# EAGLE library part MICROCHIP_PIC12F1501-I-MS (library Upverter Library)
MCHP-PIC12F1XXX_752_HV752-8
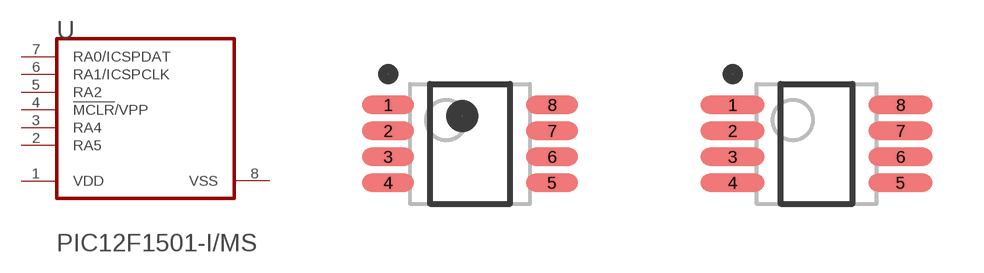
[diagram p0: symbol with the pads of MICROCHIP_PIC12F1501-I-MS_0; footprints MICROCHIP_PIC12F1501-I-MS_0, MICROCHIP_PIC12F1501-I-MS_1]

Designator prefix U

## MICROCHIP_PIC12F1501-I-MSMICROCHIP_PIC12F1501-I-MS_0_0 (Component_Link_2_Description: Package Specification; Component_Link_2_URL: http://www.microchip.com/stellent/groups/techpub_sg/documents/packagingspec/en012702.pdf; Component_Link_3_Description: URL Link1; Component_Link_3_URL: Product URL:http://www.microchip.com/datasheet/PIC12F1501; Datasheet_Version: Rev. A; IO_Pins: 5; Internal_Oscillator: 16 MHz, 31 kHz; MF: Microchip; MPN: PIC12F1501-I/MS; Max_CPU_Speed_MHz: 20; Memory_Type: Flash; Mounting_Technology: Surface Mount; Operation_Voltage_Range: 2.3V - 5.5V; Package_Description: 8-Lead Plastic Micro Small Outline Package, 3 x 3 mm Body, 0.65 mm Pitch; Package_Version: C04-111C, 12/2012; Packing: TUBE; Program_Memory_KBytes: 1.75; Program_Memory_KWords: 1; RAM: 64; Timers: 2 - 8-bit, 1 - 16-bit; ciiva_ids: 1155126; datasheet: http://ww1.microchip.com/downloads/en/DeviceDoc/41615A.pdf; footprint_variant_name_0: Level C; footprint_variant_name_1: Level B; footprint_variant_name_2: Level A; import_ts: 1521846234; imported: yes; imported_from: vault; of_AD_Channels: 4; package: MSOP-MS8; prefix: U; release_date: 1370067038; rohs: Yes; vault_guid: 903B7C59-E1DA-4F18-BB31-A668B265E4FC; vault_revision: 10D8DFF0-9A47-4B00-B437-D0E6DFCFE437)  [MICROCHIP_PIC12F1501-I-MS_0]
1  VDD  pwr
2  RA5
3  RA4
4  !MCLR!/VPP  in
5  RA2
6  RA1/ICSPCLK
7  RA0/ICSPDAT
8  VSS  pwr

## MICROCHIP_PIC12F1501-I-MSMICROCHIP_PIC12F1501-I-MS_0_1 (Component_Link_2_Description: Package Specification; Component_Link_2_URL: http://www.microchip.com/stellent/groups/techpub_sg/documents/packagingspec/en012702.pdf; Component_Link_3_Description: URL Link1; Component_Link_3_URL: Product URL:http://www.microchip.com/datasheet/PIC12F1501; Datasheet_Version: Rev. A; IO_Pins: 5; Internal_Oscillator: 16 MHz, 31 kHz; MF: Microchip; MPN: PIC12F1501-I/MS; Max_CPU_Speed_MHz: 20; Memory_Type: Flash; Mounting_Technology: Surface Mount; Operation_Voltage_Range: 2.3V - 5.5V; Package_Description: 8-Lead Plastic Micro Small Outline Package, 3 x 3 mm Body, 0.65 mm Pitch; Package_Version: C04-111C, 12/2012; Packing: TUBE; Program_Memory_KBytes: 1.75; Program_Memory_KWords: 1; RAM: 64; Timers: 2 - 8-bit, 1 - 16-bit; ciiva_ids: 1155126; datasheet: http://ww1.microchip.com/downloads/en/DeviceDoc/41615A.pdf; footprint_variant_name_0: Level C; footprint_variant_name_1: Level B; footprint_variant_name_2: Level A; import_ts: 1521846234; imported: yes; imported_from: vault; of_AD_Channels: 4; package: MSOP-MS8; prefix: U; release_date: 1370067038; rohs: Yes; vault_guid: 903B7C59-E1DA-4F18-BB31-A668B265E4FC; vault_revision: 10D8DFF0-9A47-4B00-B437-D0E6DFCFE437)  [MICROCHIP_PIC12F1501-I-MS_1]
Pads as for MICROCHIP_PIC12F1501-I-MS_0

## MICROCHIP_PIC12F1501-I-MSMICROCHIP_PIC12F1501-I-MS_0_2 (Component_Link_2_Description: Package Specification; Component_Link_2_URL: http://www.microchip.com/stellent/groups/techpub_sg/documents/packagingspec/en012702.pdf; Component_Link_3_Description: URL Link1; Component_Link_3_URL: Product URL:http://www.microchip.com/datasheet/PIC12F1501; Datasheet_Version: Rev. A; IO_Pins: 5; Internal_Oscillator: 16 MHz, 31 kHz; MF: Microchip; MPN: PIC12F1501-I/MS; Max_CPU_Speed_MHz: 20; Memory_Type: Flash; Mounting_Technology: Surface Mount; Operation_Voltage_Range: 2.3V - 5.5V; Package_Description: 8-Lead Plastic Micro Small Outline Package, 3 x 3 mm Body, 0.65 mm Pitch; Package_Version: C04-111C, 12/2012; Packing: TUBE; Program_Memory_KBytes: 1.75; Program_Memory_KWords: 1; RAM: 64; Timers: 2 - 8-bit, 1 - 16-bit; ciiva_ids: 1155126; datasheet: http://ww1.microchip.com/downloads/en/DeviceDoc/41615A.pdf; footprint_variant_name_0: Level C; footprint_variant_name_1: Level B; footprint_variant_name_2: Level A; import_ts: 1521846234; imported: yes; imported_from: vault; of_AD_Channels: 4; package: MSOP-MS8; prefix: U; release_date: 1370067038; rohs: Yes; vault_guid: 903B7C59-E1DA-4F18-BB31-A668B265E4FC; vault_revision: 10D8DFF0-9A47-4B00-B437-D0E6DFCFE437)  [MICROCHIP_PIC12F1501-I-MS_2]
Pads as for MICROCHIP_PIC12F1501-I-MS_0

## Footprint MICROCHIP_PIC12F1501-I-MS_0 (pad centres in mm)
MCHP-PIC12F1XXX_752_HV752-8
smd 1.3 x 0.45: 1 -2.05,0.975; 2 -2.05,0.325; 3 -2.05,-0.325; 4 -2.05,-0.975; 5 2.05,-0.975; 6 2.05,-0.325; 7 2.05,0.325; 8 2.05,0.975

## Footprint MICROCHIP_PIC12F1501-I-MS_1 (pad centres in mm)
MCHP-PIC12F1XXX_752_HV752-8
smd 1.6 x 0.45: 1 -2.1,0.975; 2 -2.1,0.325; 3 -2.1,-0.325; 4 -2.1,-0.975; 5 2.1,-0.975; 6 2.1,-0.325; 7 2.1,0.325; 8 2.1,0.975

## Footprint MICROCHIP_PIC12F1501-I-MS_2 (pad centres in mm)
MCHP-PIC12F1XXX_752_HV752-8
smd 1.9 x 0.45: 1 -2.15,0.975; 2 -2.15,0.325; 3 -2.15,-0.325; 4 -2.15,-0.975; 5 2.15,-0.975; 6 2.15,-0.325; 7 2.15,0.325; 8 2.15,0.975